# Altium integrated library TI Power Management Supervisor and Reset IC.IntLib: 819 symbols (part 16 of 30)
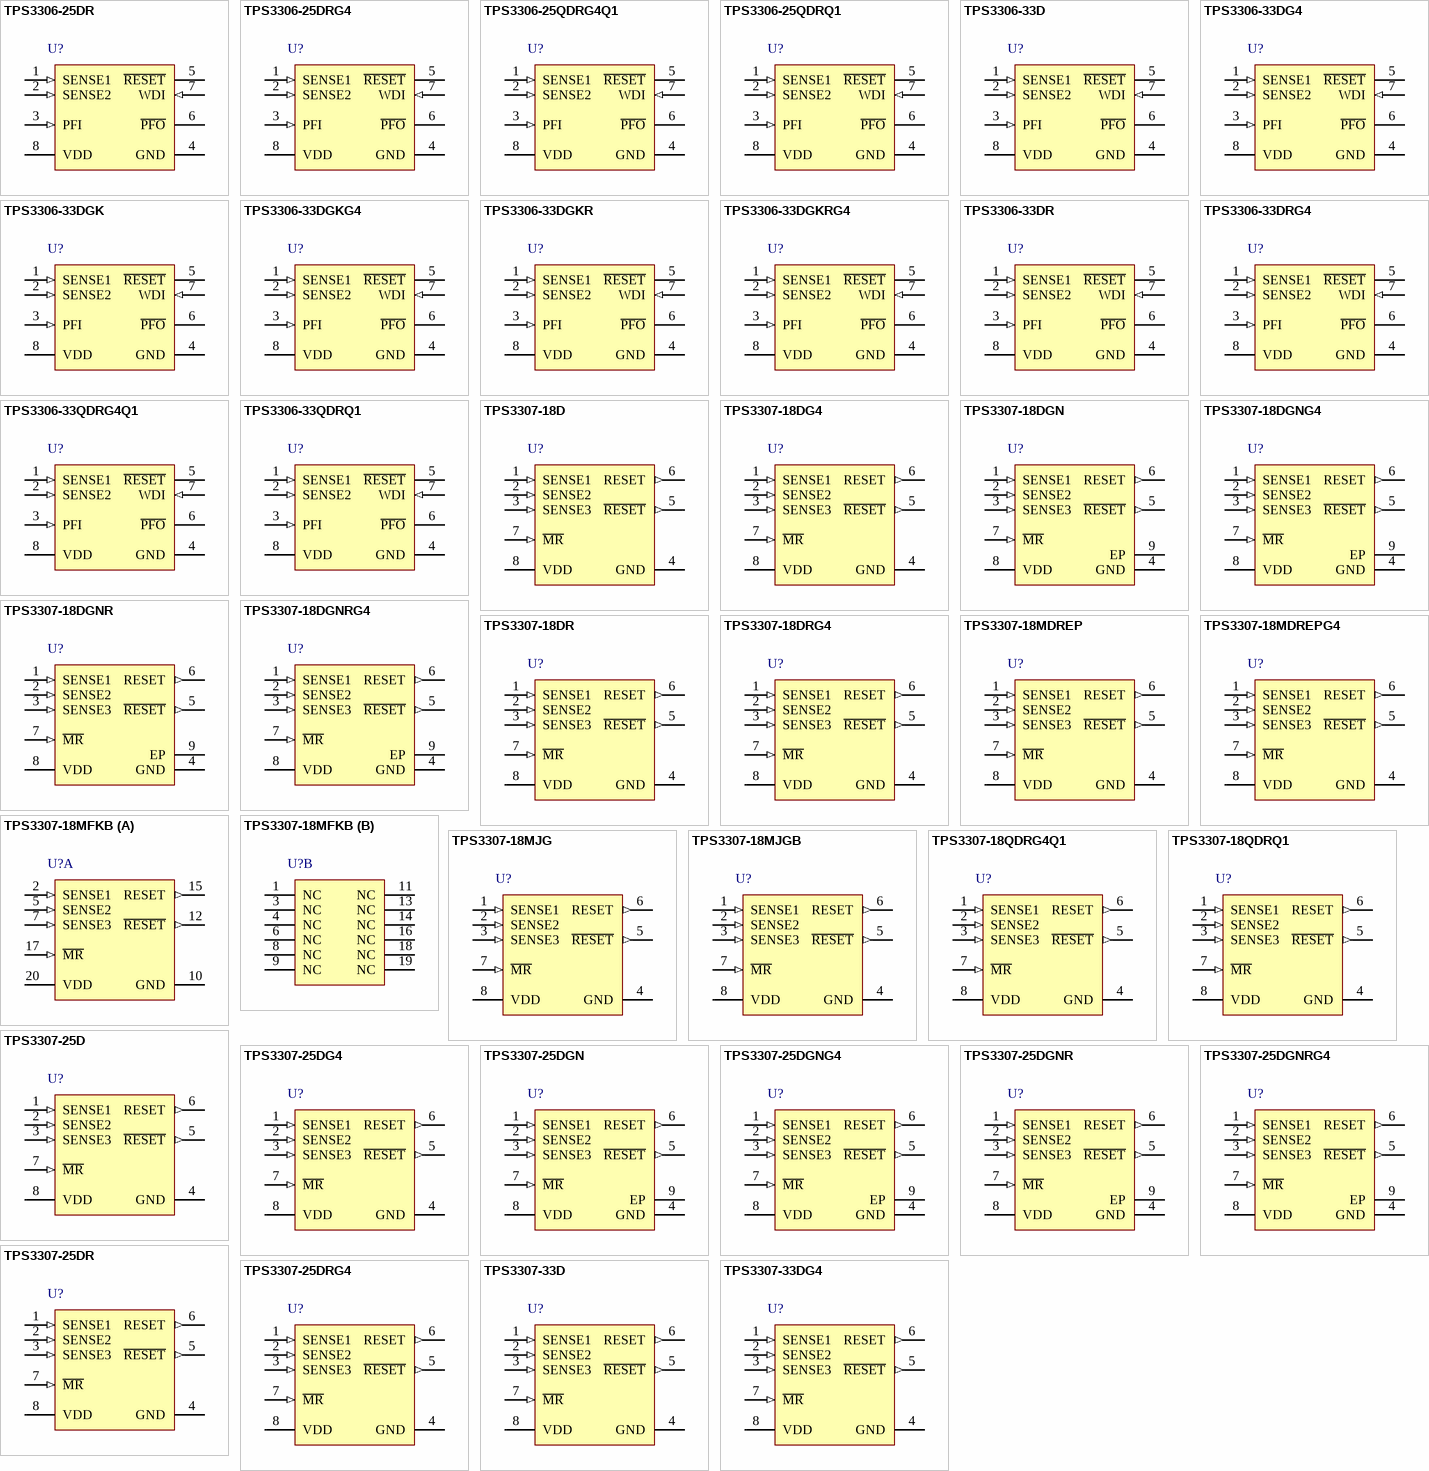
[diagram p36: symbols TPS3306-25DR to TPS3307-33DG4]

## TPS3307-33D
designator U?
Triple Processor Supervisory Circuit, 3 Supply Monitored, -40 to 85 degC, 8-pin SOIC (D), Green (RoHS & no Sb/Br); Manufacturer: Texas Instruments; PartNumber: TPS3307-33D; # of supplies monitored: 3; Iq(Typ)(uA): 15; Output Driver Type / Reset Output: Active-low, Push-pull; Rating: Military; Reset Threshold Accuracy(%): 2.7; SubFamily: Supervisor and Reset IC; Threshold Voltage 1 (typ)(Typ)(V): 4.55; Threshold Voltage 2 (typ)(Typ)(V): 2.93; Threshold Voltage 3 (typ)(Typ)(V): Adjustable; Time Delay(ms): 200; VCC(Max)(V): 6; VCC(Min)(V): 2; DatasheetVersion: SLVS199C; PackageVersion: revM, Jun-2011; PackageReference: D8; PackageDescription: 8-Pin Plastic Small Outline Integrated Circuit, 4.9 x 3.9 mm, Pitch 1.27 mm Pitch; Supplier 1: Digi-Key; Supplier Part Number 1: 296-3314-5-ND; Supplier 2: Farnell; Supplier Part Number 2: 1106064; Supplier 3: Newark; Supplier Part Number 3: 74K3976; Supplier 4: Mouser; Supplier Part Number 4: 595-TPS3307-33D; Mounting Technology: Surface Mount; Code_JEDEC: MS-012AA; ComponentLink1Description: Datasheet; ComponentLink1URL: http://www.ti.com/general/docs/lit/getliterature.tsp?genericPartNumber=TPS3307-33&fileType=pdf
footprint D8_N (SOIC, 8-Leads, Body 4.9x3.9mm, Pitch 1.27mm, IPC Medium Density)
footprint D8_L (SOIC, 8-Leads, Body 4.9x3.9mm, Pitch 1.27mm, IPC High Density)
footprint D8_M (SOIC, 8-Leads, Body 4.9x3.9mm, Pitch 1.27mm, IPC Low Density)
pins: 1 SENSE1 (in) "Sense voltage input 1", 2 SENSE2 (in) "Sense voltage input 2", 3 SENSE3 (in) "Sense voltage input 3", 4 GND (power) "Ground", 5 ~{RESET} (out) "Active-low reset output", 6 RESET (out) "Active-high reset output", 7 ~{MR} (in) "Manual reset", 8 VDD (power) "Supply voltage"

## TPS3307-33DG4
designator U?
Triple Processor Supervisory Circuit, 3 Supply Monitored, -40 to 85 degC, 8-pin SOIC (D), Green (RoHS & no Sb/Br); Manufacturer: Texas Instruments; PartNumber: TPS3307-33DG4; # of supplies monitored: 3; Iq(Typ)(uA): 15; Output Driver Type / Reset Output: Active-low, Push-pull; Rating: Military; Reset Threshold Accuracy(%): 2.7; SubFamily: Supervisor and Reset IC; Threshold Voltage 1 (typ)(Typ)(V): 4.55; Threshold Voltage 2 (typ)(Typ)(V): 2.93; Threshold Voltage 3 (typ)(Typ)(V): Adjustable; Time Delay(ms): 200; VCC(Max)(V): 6; VCC(Min)(V): 2; DatasheetVersion: SLVS199C; PackageVersion: revM, Jun-2011; PackageReference: D8; PackageDescription: 8-Pin Plastic Small Outline Integrated Circuit, 4.9 x 3.9 mm, Pitch 1.27 mm Pitch; Supplier 1: Digi-Key; Supplier Part Number 1: TPS3307-33DG4-ND; Supplier 2: Newark; Supplier Part Number 2: 43K4151; Supplier 3: Mouser; Supplier Part Number 3: 595-TPS3307-33DG4; Mounting Technology: Surface Mount; Code_JEDEC: MS-012AA; ComponentLink1Description: Datasheet; ComponentLink1URL: http://www.ti.com/general/docs/lit/getliterature.tsp?genericPartNumber=TPS3307-33&fileType=pdf
footprint D8_N (SOIC, 8-Leads, Body 4.9x3.9mm, Pitch 1.27mm, IPC Medium Density)
footprint D8_L (SOIC, 8-Leads, Body 4.9x3.9mm, Pitch 1.27mm, IPC High Density)
footprint D8_M (SOIC, 8-Leads, Body 4.9x3.9mm, Pitch 1.27mm, IPC Low Density)
pins: 1 SENSE1 (in) "Sense voltage input 1", 2 SENSE2 (in) "Sense voltage input 2", 3 SENSE3 (in) "Sense voltage input 3", 4 GND (power) "Ground", 5 ~{RESET} (out) "Active-low reset output", 6 RESET (out) "Active-high reset output", 7 ~{MR} (in) "Manual reset", 8 VDD (power) "Supply voltage"

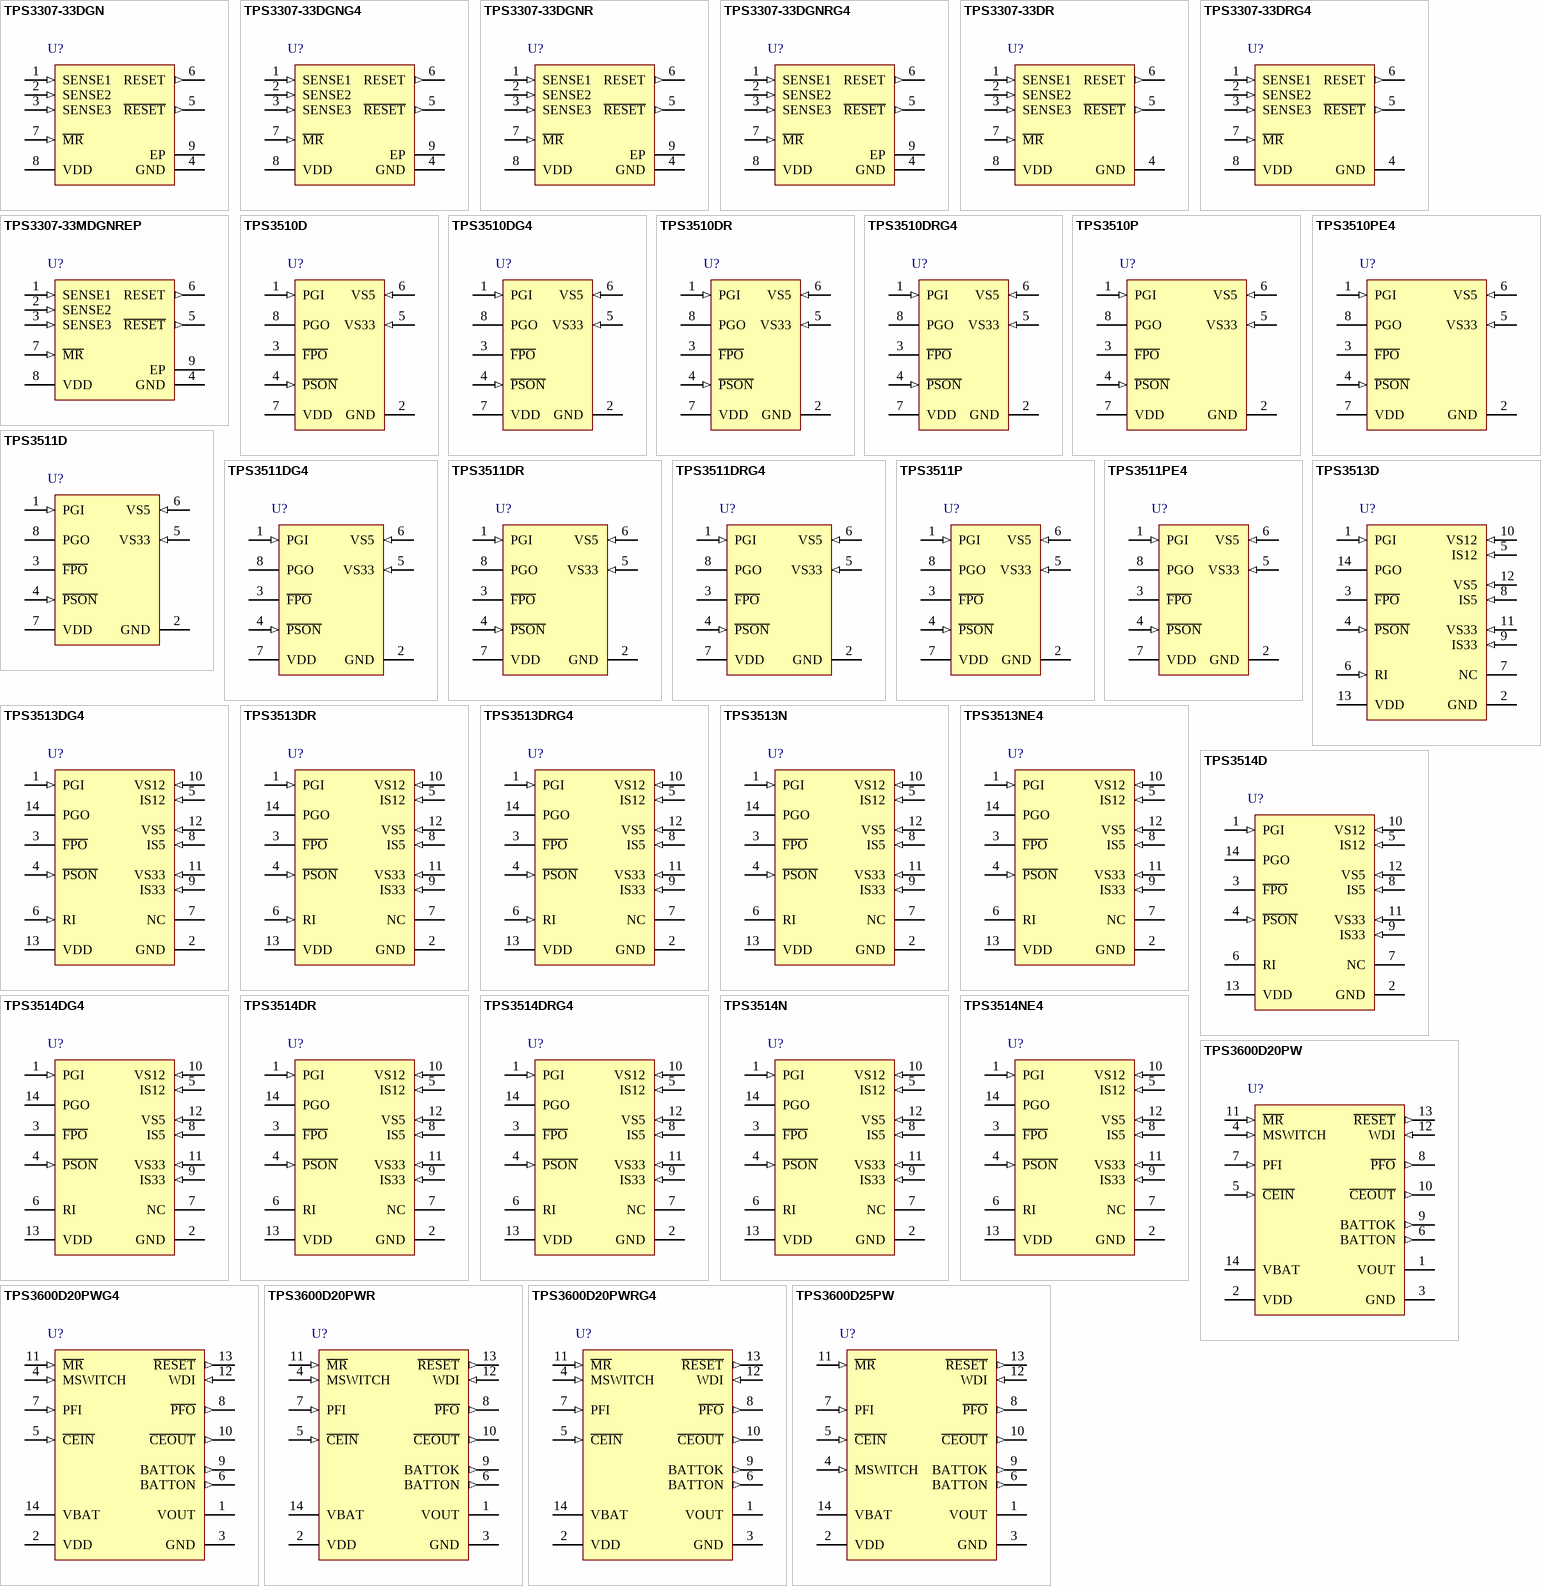
[diagram p12: symbols TPS3307-33DGN to TPS3600D25PW]

## TPS3307-33DGN
designator U?
Triple Processor Supervisory Circuit, 3 Supply Monitored, -40 to 85 degC, 8-pin MSOP-PowerPAD (DGN), Green (RoHS & no Sb/Br); Manufacturer: Texas Instruments; PartNumber: TPS3307-33DGN; # of supplies monitored: 3; Iq(Typ)(uA): 15; Output Driver Type / Reset Output: Active-low, Push-pull; Rating: Military; Reset Threshold Accuracy(%): 2.7; SubFamily: Supervisor and Reset IC; Threshold Voltage 1 (typ)(Typ)(V): 4.55; Threshold Voltage 2 (typ)(Typ)(V): 2.93; Threshold Voltage 3 (typ)(Typ)(V): Adjustable; Time Delay(ms): 200; VCC(Max)(V): 6; VCC(Min)(V): 2; DatasheetVersion: SLVS199C; PackageVersion: revF, May-2011; PackageReference: DGN8-1760X1425TP; PackageDescription: 8-Pin PowerPAD Plastic Small Outline Package 3 x 3 mm Body ,0.65 mm Pitch, Exposed Pad; Supplier 1: Digi-Key; Supplier Part Number 1: 296-3315-5-ND; Supplier 2: Farnell; Supplier Part Number 2: 1256031; Supplier 3: Newark; Supplier Part Number 3: 77C0331; Supplier 4: Mouser; Supplier Part Number 4: 595-TPS3307-33DGN; Mounting Technology: Surface Mount; Code_JEDEC: MO-187-AA-T; ComponentLink1Description: Datasheet; ComponentLink1URL: http://www.ti.com/general/docs/lit/getliterature.tsp?genericPartNumber=TPS3307-33&fileType=pdf
footprint DGN8-1760X1425TP_N (TSOP, 8-Leads, Body 3x3mm, Pitch 0.65mm, Thermal Pad 1.89x1.57mm, IPC Medium Density)
footprint DGN8-1760X1425TP_L (TSOP, 8-Leads, Body 3x3mm, Pitch 0.65mm, Thermal Pad 1.89x1.57mm, IPC High Density)
footprint DGN8-1760X1425TP_M (TSOP, 8-Leads, Body 3x3mm, Pitch 0.65mm, Thermal Pad 1.89x1.57mm, IPC Low Density)
pins: 1 SENSE1 (in) "Sense voltage input 1", 2 SENSE2 (in) "Sense voltage input 2", 3 SENSE3 (in) "Sense voltage input 3", 4 GND (power) "Ground", 5 ~{RESET} (out) "Active-low reset output", 6 RESET (out) "Active-high reset output", 7 ~{MR} (in) "Manual reset", 8 VDD (power) "Supply voltage", 9 EP (power) "Exposed Thermal Pad"

## TPS3307-33DGNG4
designator U?
Triple Processor Supervisory Circuit, 3 Supply Monitored, -40 to 85 degC, 8-pin MSOP-PowerPAD (DGN), Green (RoHS & no Sb/Br); Manufacturer: Texas Instruments; PartNumber: TPS3307-33DGNG4; # of supplies monitored: 3; Iq(Typ)(uA): 15; Output Driver Type / Reset Output: Active-low, Push-pull; Rating: Military; Reset Threshold Accuracy(%): 2.7; SubFamily: Supervisor and Reset IC; Threshold Voltage 1 (typ)(Typ)(V): 4.55; Threshold Voltage 2 (typ)(Typ)(V): 2.93; Threshold Voltage 3 (typ)(Typ)(V): Adjustable; Time Delay(ms): 200; VCC(Max)(V): 6; VCC(Min)(V): 2; DatasheetVersion: SLVS199C; PackageVersion: revF, May-2011; PackageReference: DGN8-1760X1425TP; PackageDescription: 8-Pin PowerPAD Plastic Small Outline Package 3 x 3 mm Body ,0.65 mm Pitch, Exposed Pad; Supplier 1: Digi-Key; Supplier Part Number 1: TPS3307-33DGNG4-ND; Supplier 2: Farnell; Supplier Part Number 2: 1214435; Supplier 3: Newark; Supplier Part Number 3: 98K1812; Supplier 4: Newark; Supplier Part Number 4: 70K5724; Supplier 5: Mouser; Supplier Part Number 5: 595-TPS3307-33DGNG4; Mounting Technology: Surface Mount; Code_JEDEC: MO-187-AA-T; ComponentLink1Description: Datasheet; ComponentLink1URL: http://www.ti.com/general/docs/lit/getliterature.tsp?genericPartNumber=TPS3307-33&fileType=pdf
footprint DGN8-1760X1425TP_N (TSOP, 8-Leads, Body 3x3mm, Pitch 0.65mm, Thermal Pad 1.89x1.57mm, IPC Medium Density)
footprint DGN8-1760X1425TP_L (TSOP, 8-Leads, Body 3x3mm, Pitch 0.65mm, Thermal Pad 1.89x1.57mm, IPC High Density)
footprint DGN8-1760X1425TP_M (TSOP, 8-Leads, Body 3x3mm, Pitch 0.65mm, Thermal Pad 1.89x1.57mm, IPC Low Density)
pins: 1 SENSE1 (in) "Sense voltage input 1", 2 SENSE2 (in) "Sense voltage input 2", 3 SENSE3 (in) "Sense voltage input 3", 4 GND (power) "Ground", 5 ~{RESET} (out) "Active-low reset output", 6 RESET (out) "Active-high reset output", 7 ~{MR} (in) "Manual reset", 8 VDD (power) "Supply voltage", 9 EP (power) "Exposed Thermal Pad"

## TPS3307-33DGNR
designator U?
Triple Processor Supervisory Circuit, 3 Supply Monitored, -40 to 85 degC, 8-pin MSOP-PowerPAD (DGN), Green (RoHS & no Sb/Br); Manufacturer: Texas Instruments; PartNumber: TPS3307-33DGNR; # of supplies monitored: 3; Iq(Typ)(uA): 15; Output Driver Type / Reset Output: Active-low, Push-pull; Rating: Military; Reset Threshold Accuracy(%): 2.7; SubFamily: Supervisor and Reset IC; Threshold Voltage 1 (typ)(Typ)(V): 4.55; Threshold Voltage 2 (typ)(Typ)(V): 2.93; Threshold Voltage 3 (typ)(Typ)(V): Adjustable; Time Delay(ms): 200; VCC(Max)(V): 6; VCC(Min)(V): 2; DatasheetVersion: SLVS199C; PackageVersion: revF, May-2011; PackageReference: DGN8-1760X1425TP; PackageDescription: 8-Pin PowerPAD Plastic Small Outline Package 3 x 3 mm Body ,0.65 mm Pitch, Exposed Pad; Supplier 1: Digi-Key; Supplier Part Number 1: 296-3315-2-ND; Supplier 2: Digi-Key; Supplier Part Number 2: 296-3315-1-ND; Supplier 3: Digi-Key; Supplier Part Number 3: 296-3315-6-ND; Supplier 4: Newark; Supplier Part Number 4: 77C0332; Supplier 5: Mouser; Supplier Part Number 5: 595-TPS3307-33DGNR; Mounting Technology: Surface Mount; Code_JEDEC: MO-187-AA-T; ComponentLink1Description: Datasheet; ComponentLink1URL: http://www.ti.com/general/docs/lit/getliterature.tsp?genericPartNumber=TPS3307-33&fileType=pdf
footprint DGN8-1760X1425TP_N (TSOP, 8-Leads, Body 3x3mm, Pitch 0.65mm, Thermal Pad 1.89x1.57mm, IPC Medium Density)
footprint DGN8-1760X1425TP_L (TSOP, 8-Leads, Body 3x3mm, Pitch 0.65mm, Thermal Pad 1.89x1.57mm, IPC High Density)
footprint DGN8-1760X1425TP_M (TSOP, 8-Leads, Body 3x3mm, Pitch 0.65mm, Thermal Pad 1.89x1.57mm, IPC Low Density)
pins: 1 SENSE1 (in) "Sense voltage input 1", 2 SENSE2 (in) "Sense voltage input 2", 3 SENSE3 (in) "Sense voltage input 3", 4 GND (power) "Ground", 5 ~{RESET} (out) "Active-low reset output", 6 RESET (out) "Active-high reset output", 7 ~{MR} (in) "Manual reset", 8 VDD (power) "Supply voltage", 9 EP (power) "Exposed Thermal Pad"

## TPS3307-33DGNRG4
designator U?
Triple Processor Supervisory Circuit, 3 Supply Monitored, -40 to 85 degC, 8-pin MSOP-PowerPAD (DGN), Green (RoHS & no Sb/Br); Manufacturer: Texas Instruments; PartNumber: TPS3307-33DGNRG4; # of supplies monitored: 3; Iq(Typ)(uA): 15; Output Driver Type / Reset Output: Active-low, Push-pull; Rating: Military; Reset Threshold Accuracy(%): 2.7; SubFamily: Supervisor and Reset IC; Threshold Voltage 1 (typ)(Typ)(V): 4.55; Threshold Voltage 2 (typ)(Typ)(V): 2.93; Threshold Voltage 3 (typ)(Typ)(V): Adjustable; Time Delay(ms): 200; VCC(Max)(V): 6; VCC(Min)(V): 2; DatasheetVersion: SLVS199C; PackageVersion: revF, May-2011; PackageReference: DGN8-1760X1425TP; PackageDescription: 8-Pin PowerPAD Plastic Small Outline Package 3 x 3 mm Body ,0.65 mm Pitch, Exposed Pad; Supplier 1: Digi-Key; Supplier Part Number 1: TPS3307-33DGNRG4-ND; Supplier 2: Newark; Supplier Part Number 2: 58K6918; Supplier 3: Mouser; Supplier Part Number 3: 595-TPS3307-33DGNRG4; Mounting Technology: Surface Mount; Code_JEDEC: MO-187-AA-T; ComponentLink1Description: Datasheet; ComponentLink1URL: http://www.ti.com/general/docs/lit/getliterature.tsp?genericPartNumber=TPS3307-33&fileType=pdf
footprint DGN8-1760X1425TP_N (TSOP, 8-Leads, Body 3x3mm, Pitch 0.65mm, Thermal Pad 1.89x1.57mm, IPC Medium Density)
footprint DGN8-1760X1425TP_L (TSOP, 8-Leads, Body 3x3mm, Pitch 0.65mm, Thermal Pad 1.89x1.57mm, IPC High Density)
footprint DGN8-1760X1425TP_M (TSOP, 8-Leads, Body 3x3mm, Pitch 0.65mm, Thermal Pad 1.89x1.57mm, IPC Low Density)
pins: 1 SENSE1 (in) "Sense voltage input 1", 2 SENSE2 (in) "Sense voltage input 2", 3 SENSE3 (in) "Sense voltage input 3", 4 GND (power) "Ground", 5 ~{RESET} (out) "Active-low reset output", 6 RESET (out) "Active-high reset output", 7 ~{MR} (in) "Manual reset", 8 VDD (power) "Supply voltage", 9 EP (power) "Exposed Thermal Pad"

## TPS3307-33DR
designator U?
Triple Processor Supervisory Circuit, 3 Supply Monitored, -40 to 85 degC, 8-pin SOIC (D), Green (RoHS & no Sb/Br); Manufacturer: Texas Instruments; PartNumber: TPS3307-33DR; # of supplies monitored: 3; Iq(Typ)(uA): 15; Output Driver Type / Reset Output: Active-low, Push-pull; Rating: Military; Reset Threshold Accuracy(%): 2.7; SubFamily: Supervisor and Reset IC; Threshold Voltage 1 (typ)(Typ)(V): 4.55; Threshold Voltage 2 (typ)(Typ)(V): 2.93; Threshold Voltage 3 (typ)(Typ)(V): Adjustable; Time Delay(ms): 200; VCC(Max)(V): 6; VCC(Min)(V): 2; DatasheetVersion: SLVS199C; PackageVersion: revM, Jun-2011; PackageReference: D8; PackageDescription: 8-Pin Plastic Small Outline Integrated Circuit, 4.9 x 3.9 mm, Pitch 1.27 mm Pitch; Supplier 1: Digi-Key; Supplier Part Number 1: 296-3314-2-ND; Supplier 2: Digi-Key; Supplier Part Number 2: 296-3314-1-ND; Supplier 3: Digi-Key; Supplier Part Number 3: 296-3314-6-ND; Supplier 4: Newark; Supplier Part Number 4: 77C0333; Supplier 5: Mouser; Supplier Part Number 5: 595-TPS3307-33DR; Mounting Technology: Surface Mount; Code_JEDEC: MS-012AA; ComponentLink1Description: Datasheet; ComponentLink1URL: http://www.ti.com/general/docs/lit/getliterature.tsp?genericPartNumber=TPS3307-33&fileType=pdf
footprint D8_N (SOIC, 8-Leads, Body 4.9x3.9mm, Pitch 1.27mm, IPC Medium Density)
footprint D8_L (SOIC, 8-Leads, Body 4.9x3.9mm, Pitch 1.27mm, IPC High Density)
footprint D8_M (SOIC, 8-Leads, Body 4.9x3.9mm, Pitch 1.27mm, IPC Low Density)
pins: 1 SENSE1 (in) "Sense voltage input 1", 2 SENSE2 (in) "Sense voltage input 2", 3 SENSE3 (in) "Sense voltage input 3", 4 GND (power) "Ground", 5 ~{RESET} (out) "Active-low reset output", 6 RESET (out) "Active-high reset output", 7 ~{MR} (in) "Manual reset", 8 VDD (power) "Supply voltage"

## TPS3307-33DRG4
designator U?
Triple Processor Supervisory Circuit, 3 Supply Monitored, -40 to 85 degC, 8-pin SOIC (D), Green (RoHS & no Sb/Br); Manufacturer: Texas Instruments; PartNumber: TPS3307-33DRG4; # of supplies monitored: 3; Iq(Typ)(uA): 15; Output Driver Type / Reset Output: Active-low, Push-pull; Rating: Military; Reset Threshold Accuracy(%): 2.7; SubFamily: Supervisor and Reset IC; Threshold Voltage 1 (typ)(Typ)(V): 4.55; Threshold Voltage 2 (typ)(Typ)(V): 2.93; Threshold Voltage 3 (typ)(Typ)(V): Adjustable; Time Delay(ms): 200; VCC(Max)(V): 6; VCC(Min)(V): 2; DatasheetVersion: SLVS199C; PackageVersion: revM, Jun-2011; PackageReference: D8; PackageDescription: 8-Pin Plastic Small Outline Integrated Circuit, 4.9 x 3.9 mm, Pitch 1.27 mm Pitch; Supplier 1: Digi-Key; Supplier Part Number 1: TPS3307-33DRG4-ND; Supplier 2: Newark; Supplier Part Number 2: 71J8100; Supplier 3: Mouser; Supplier Part Number 3: 595-TPS3307-33DRG4; Mounting Technology: Surface Mount; Code_JEDEC: MS-012AA; ComponentLink1Description: Datasheet; ComponentLink1URL: http://www.ti.com/general/docs/lit/getliterature.tsp?genericPartNumber=TPS3307-33&fileType=pdf
footprint D8_N (SOIC, 8-Leads, Body 4.9x3.9mm, Pitch 1.27mm, IPC Medium Density)
footprint D8_L (SOIC, 8-Leads, Body 4.9x3.9mm, Pitch 1.27mm, IPC High Density)
footprint D8_M (SOIC, 8-Leads, Body 4.9x3.9mm, Pitch 1.27mm, IPC Low Density)
pins: 1 SENSE1 (in) "Sense voltage input 1", 2 SENSE2 (in) "Sense voltage input 2", 3 SENSE3 (in) "Sense voltage input 3", 4 GND (power) "Ground", 5 ~{RESET} (out) "Active-low reset output", 6 RESET (out) "Active-high reset output", 7 ~{MR} (in) "Manual reset", 8 VDD (power) "Supply voltage"

## TPS3307-33MDGNREP
designator U?
Enhanced Product Triple Processor Supervisor, 3 Supply Monitored, -55 to 125 degC, 8-pin MSOP-PowerPAD (DGN), Green (RoHS & no Sb/Br); Manufacturer: Texas Instruments; PartNumber: TPS3307-33MDGNREP; # of supplies monitored: 3; Iq(Typ)(uA): 15; Output Driver Type / Reset Output: Active-low, Push-pull; Rating: HiRel Enhanced Product; Reset Threshold Accuracy(%): 2.7; SubFamily: Supervisor and Reset IC; Threshold Voltage 1 (typ)(Typ)(V): 4.55; Threshold Voltage 2 (typ)(Typ)(V): 2.93; Threshold Voltage 3 (typ)(Typ)(V): Adjustable; Time Delay(ms): 200; VCC(Max)(V): 6; VCC(Min)(V): 2; DatasheetVersion: SGLS140A; PackageVersion: revF, May-2011; PackageReference: DGN8-1760X1425TP; PackageDescription: 8-Pin PowerPAD Plastic Small Outline Package 3 x 3 mm Body ,0.65 mm Pitch, Exposed Pad; Supplier 1: Digi-Key; Supplier Part Number 1: 296-21267-2-ND; Supplier 2: Digi-Key; Supplier Part Number 2: 296-21267-1-ND; Supplier 3: Digi-Key; Supplier Part Number 3: 296-21267-6-ND; Supplier 4: Newark; Supplier Part Number 4: 46M1094; Supplier 5: Mouser; Supplier Part Number 5: 595-PS3307-33MDGNREP; Mounting Technology: Surface Mount; Code_JEDEC: MO-187-AA-T; ComponentLink1Description: Datasheet; ComponentLink1URL: http://www.ti.com/general/docs/lit/getliterature.tsp?genericPartNumber=TPS3307-33-EP&fileType=pdf
footprint DGN8-1760X1425TP_N (TSOP, 8-Leads, Body 3x3mm, Pitch 0.65mm, Thermal Pad 1.89x1.57mm, IPC Medium Density)
footprint DGN8-1760X1425TP_L (TSOP, 8-Leads, Body 3x3mm, Pitch 0.65mm, Thermal Pad 1.89x1.57mm, IPC High Density)
footprint DGN8-1760X1425TP_M (TSOP, 8-Leads, Body 3x3mm, Pitch 0.65mm, Thermal Pad 1.89x1.57mm, IPC Low Density)
pins: 1 SENSE1 (in), 2 SENSE2 (in), 3 SENSE3 (in), 4 GND (power), 5 ~{RESET} (out), 6 RESET (out), 7 ~{MR} (in), 8 VDD (power), 9 EP

## TPS3510D
designator U?
3-Channel Supervisor for Switch-Mode Power Supplies, 3 Supply Monitored, -40 to 85 degC, 8-pin SOIC (D), Green (RoHS & no Sb/Br); Manufacturer: Texas Instruments; PartNumber: TPS3510D; # of supplies monitored: 3; Iq(Typ)(uA): 1000; Output Driver Type / Reset Output: Active-low, Open-drain; Rating: Catalog; Reset Threshold Accuracy(%): 9.1; SubFamily: Supervisor and Reset IC; Threshold Voltage 1 (typ)(Typ)(V): 2.2; Threshold Voltage 2 (typ)(Typ)(V): 3.5; Threshold Voltage 3 (typ)(Typ)(V): 13.8; Time Delay(ms): 300; VCC(Max)(V): 15; VCC(Min)(V): 4; DatasheetVersion: SLVS312A; PackageVersion: revM, Jun-2011; PackageReference: D8; PackageDescription: 8-Pin Plastic Small Outline Integrated Circuit, 4.9 x 3.9 mm, Pitch 1.27 mm Pitch; Supplier 1: Digi-Key; Supplier Part Number 1: 296-26938-5-ND; Supplier 2: Newark; Supplier Part Number 2: 77C0334; Supplier 3: Mouser; Supplier Part Number 3: 595-TPS3510D; Mounting Technology: Surface Mount; Code_JEDEC: MS-012AA; ComponentLink1Description: Datasheet; ComponentLink1URL: http://www.ti.com/general/docs/lit/getliterature.tsp?genericPartNumber=TPS3510&fileType=pdf
footprint D8_N (SOIC, 8-Leads, Body 4.9x3.9mm, Pitch 1.27mm, IPC Medium Density)
footprint D8_L (SOIC, 8-Leads, Body 4.9x3.9mm, Pitch 1.27mm, IPC High Density)
footprint D8_M (SOIC, 8-Leads, Body 4.9x3.9mm, Pitch 1.27mm, IPC Low Density)
pins: 1 PGI (in) "Power good input", 2 GND (power) "Ground", 3 ~{FPO} (oc) "Inverted fault protection output, open drain output stage", 4 ~{PSON} (in) "ON/OFF control", 5 VS33 (in) "3.3 V over/undervoltage protection", 6 VS5 (in) "5 V over/undervoltage protection", 7 VDD (power) "Supply voltage/12 V overvoltage protection input pin", 8 PGO (oc) "Power good output, open drain output stage"

## TPS3510DG4
designator U?
3-Channel Supervisor for Switch-Mode Power Supplies, 3 Supply Monitored, -40 to 85 degC, 8-pin SOIC (D), Green (RoHS & no Sb/Br); Manufacturer: Texas Instruments; PartNumber: TPS3510DG4; # of supplies monitored: 3; Iq(Typ)(uA): 1000; Output Driver Type / Reset Output: Active-low, Open-drain; Rating: Catalog; Reset Threshold Accuracy(%): 9.1; SubFamily: Supervisor and Reset IC; Threshold Voltage 1 (typ)(Typ)(V): 2.2; Threshold Voltage 2 (typ)(Typ)(V): 3.5; Threshold Voltage 3 (typ)(Typ)(V): 13.8; Time Delay(ms): 300; VCC(Max)(V): 15; VCC(Min)(V): 4; DatasheetVersion: SLVS312A; PackageVersion: revM, Jun-2011; PackageReference: D8; PackageDescription: 8-Pin Plastic Small Outline Integrated Circuit, 4.9 x 3.9 mm, Pitch 1.27 mm Pitch; Supplier 1: Digi-Key; Supplier Part Number 1: TPS3510DG4-ND; Supplier 2: Newark; Supplier Part Number 2: 58K6919; Supplier 3: Mouser; Supplier Part Number 3: 595-TPS3510DG4; Mounting Technology: Surface Mount; Code_JEDEC: MS-012AA; ComponentLink1Description: Datasheet; ComponentLink1URL: http://www.ti.com/general/docs/lit/getliterature.tsp?genericPartNumber=TPS3510&fileType=pdf
footprint D8_N (SOIC, 8-Leads, Body 4.9x3.9mm, Pitch 1.27mm, IPC Medium Density)
footprint D8_L (SOIC, 8-Leads, Body 4.9x3.9mm, Pitch 1.27mm, IPC High Density)
footprint D8_M (SOIC, 8-Leads, Body 4.9x3.9mm, Pitch 1.27mm, IPC Low Density)
pins: 1 PGI (in) "Power good input", 2 GND (power) "Ground", 3 ~{FPO} (oc) "Inverted fault protection output, open drain output stage", 4 ~{PSON} (in) "ON/OFF control", 5 VS33 (in) "3.3 V over/undervoltage protection", 6 VS5 (in) "5 V over/undervoltage protection", 7 VDD (power) "Supply voltage/12 V overvoltage protection input pin", 8 PGO (oc) "Power good output, open drain output stage"

## TPS3510DR
designator U?
3-Channel Supervisor for Switch-Mode Power Supplies, 3 Supply Monitored, -40 to 85 degC, 8-pin SOIC (D), Green (RoHS & no Sb/Br); Manufacturer: Texas Instruments; PartNumber: TPS3510DR; # of supplies monitored: 3; Iq(Typ)(uA): 1000; Output Driver Type / Reset Output: Active-low, Open-drain; Rating: Catalog; Reset Threshold Accuracy(%): 9.1; SubFamily: Supervisor and Reset IC; Threshold Voltage 1 (typ)(Typ)(V): 2.2; Threshold Voltage 2 (typ)(Typ)(V): 3.5; Threshold Voltage 3 (typ)(Typ)(V): 13.8; Time Delay(ms): 300; VCC(Max)(V): 15; VCC(Min)(V): 4; DatasheetVersion: SLVS312A; PackageVersion: revM, Jun-2011; PackageReference: D8; PackageDescription: 8-Pin Plastic Small Outline Integrated Circuit, 4.9 x 3.9 mm, Pitch 1.27 mm Pitch; Supplier 1: Digi-Key; Supplier Part Number 1: 296-3317-2-ND; Supplier 2: Digi-Key; Supplier Part Number 2: 296-3317-1-ND; Supplier 3: Digi-Key; Supplier Part Number 3: 296-3317-6-ND; Supplier 4: Newark; Supplier Part Number 4: 77C0335; Supplier 5: Mouser; Supplier Part Number 5: 595-TPS3510DR; Mounting Technology: Surface Mount; Code_JEDEC: MS-012AA; ComponentLink1Description: Datasheet; ComponentLink1URL: http://www.ti.com/general/docs/lit/getliterature.tsp?genericPartNumber=TPS3510&fileType=pdf
footprint D8_N (SOIC, 8-Leads, Body 4.9x3.9mm, Pitch 1.27mm, IPC Medium Density)
footprint D8_L (SOIC, 8-Leads, Body 4.9x3.9mm, Pitch 1.27mm, IPC High Density)
footprint D8_M (SOIC, 8-Leads, Body 4.9x3.9mm, Pitch 1.27mm, IPC Low Density)
pins: 1 PGI (in) "Power good input", 2 GND (power) "Ground", 3 ~{FPO} (oc) "Inverted fault protection output, open drain output stage", 4 ~{PSON} (in) "ON/OFF control", 5 VS33 (in) "3.3 V over/undervoltage protection", 6 VS5 (in) "5 V over/undervoltage protection", 7 VDD (power) "Supply voltage/12 V overvoltage protection input pin", 8 PGO (oc) "Power good output, open drain output stage"

## TPS3510DRG4
designator U?
3-Channel Supervisor for Switch-Mode Power Supplies, 3 Supply Monitored, -40 to 85 degC, 8-pin SOIC (D), Green (RoHS & no Sb/Br); Manufacturer: Texas Instruments; PartNumber: TPS3510DRG4; # of supplies monitored: 3; Iq(Typ)(uA): 1000; Output Driver Type / Reset Output: Active-low, Open-drain; Rating: Catalog; Reset Threshold Accuracy(%): 9.1; SubFamily: Supervisor and Reset IC; Threshold Voltage 1 (typ)(Typ)(V): 2.2; Threshold Voltage 2 (typ)(Typ)(V): 3.5; Threshold Voltage 3 (typ)(Typ)(V): 13.8; Time Delay(ms): 300; VCC(Max)(V): 15; VCC(Min)(V): 4; DatasheetVersion: SLVS312A; PackageVersion: revM, Jun-2011; PackageReference: D8; PackageDescription: 8-Pin Plastic Small Outline Integrated Circuit, 4.9 x 3.9 mm, Pitch 1.27 mm Pitch; Supplier 1: Digi-Key; Supplier Part Number 1: TPS3510DRG4-ND; Supplier 2: Newark; Supplier Part Number 2: 54K1629; Supplier 3: Mouser; Supplier Part Number 3: 595-TPS3510DRG4; Mounting Technology: Surface Mount; Code_JEDEC: MS-012AA; ComponentLink1Description: Datasheet; ComponentLink1URL: http://www.ti.com/general/docs/lit/getliterature.tsp?genericPartNumber=TPS3510&fileType=pdf
footprint D8_N (SOIC, 8-Leads, Body 4.9x3.9mm, Pitch 1.27mm, IPC Medium Density)
footprint D8_L (SOIC, 8-Leads, Body 4.9x3.9mm, Pitch 1.27mm, IPC High Density)
footprint D8_M (SOIC, 8-Leads, Body 4.9x3.9mm, Pitch 1.27mm, IPC Low Density)
pins: 1 PGI (in) "Power good input", 2 GND (power) "Ground", 3 ~{FPO} (oc) "Inverted fault protection output, open drain output stage", 4 ~{PSON} (in) "ON/OFF control", 5 VS33 (in) "3.3 V over/undervoltage protection", 6 VS5 (in) "5 V over/undervoltage protection", 7 VDD (power) "Supply voltage/12 V overvoltage protection input pin", 8 PGO (oc) "Power good output, open drain output stage"

## TPS3510P
designator U?
3-Channel Supervisor for Switch-Mode Power Supplies, 3 Supply Monitored, -40 to 85 degC, 8-pin PDIP (P), Pb-Free (RoHS); Manufacturer: Texas Instruments; PartNumber: TPS3510P; # of supplies monitored: 3; Iq(Typ)(uA): 1000; Output Driver Type / Reset Output: Active-low, Open-drain; Rating: Catalog; Reset Threshold Accuracy(%): 9.1; SubFamily: Supervisor and Reset IC; Threshold Voltage 1 (typ)(Typ)(V): 2.2; Threshold Voltage 2 (typ)(Typ)(V): 3.5; Threshold Voltage 3 (typ)(Typ)(V): 13.8; Time Delay(ms): 300; VCC(Max)(V): 15; VCC(Min)(V): 4; DatasheetVersion: SLVS312A; PackageVersion: revE, Apr-2010; PackageReference: P8; PackageDescription: 8-Pin Plastic Dual-In-Line Package, Row Spacing 7.62 mm, Pitch 2.54 mm; Supplier 1: Digi-Key; Supplier Part Number 1: 296-3318-5-ND; Supplier 2: Newark; Supplier Part Number 2: 77C0336; Supplier 3: Mouser; Supplier Part Number 3: 595-TPS3510P; Mounting Technology: Through Hole; Code_JEDEC: MS-001-BA; ComponentLink1Description: Datasheet; ComponentLink1URL: http://www.ti.com/general/docs/lit/getliterature.tsp?genericPartNumber=TPS3510&fileType=pdf
footprint P8 (DIP, 8-Leads, Row Spacing 7.62mm, Pitch 2.54mm, Body 9.6x6.4mm)
pins: 1 PGI (in) "Power good input", 2 GND (power) "Ground", 3 ~{FPO} (oc) "Inverted fault protection output, open drain output stage", 4 ~{PSON} (in) "ON/OFF control", 5 VS33 (in) "3.3 V over/undervoltage protection", 6 VS5 (in) "5 V over/undervoltage protection", 7 VDD (power) "Supply voltage/12 V overvoltage protection input pin", 8 PGO (oc) "Power good output, open drain output stage"

## TPS3510PE4
designator U?
3-Channel Supervisor for Switch-Mode Power Supplies, 3 Supply Monitored, -40 to 85 degC, 8-pin PDIP (P), Pb-Free (RoHS); Manufacturer: Texas Instruments; PartNumber: TPS3510PE4; # of supplies monitored: 3; Iq(Typ)(uA): 1000; Output Driver Type / Reset Output: Active-low, Open-drain; Rating: Catalog; Reset Threshold Accuracy(%): 9.1; SubFamily: Supervisor and Reset IC; Threshold Voltage 1 (typ)(Typ)(V): 2.2; Threshold Voltage 2 (typ)(Typ)(V): 3.5; Threshold Voltage 3 (typ)(Typ)(V): 13.8; Time Delay(ms): 300; VCC(Max)(V): 15; VCC(Min)(V): 4; DatasheetVersion: SLVS312A; PackageVersion: revE, Apr-2010; PackageReference: P8; PackageDescription: 8-Pin Plastic Dual-In-Line Package, Row Spacing 7.62 mm, Pitch 2.54 mm; Supplier 1: Digi-Key; Supplier Part Number 1: TPS3510PE4-ND; Supplier 2: Farnell; Supplier Part Number 2: 1287684; Supplier 3: Newark; Supplier Part Number 3: 24K5918; Supplier 4: Mouser; Supplier Part Number 4: 595-TPS3510PE4; Mounting Technology: Through Hole; Code_JEDEC: MS-001-BA; ComponentLink1Description: Datasheet; ComponentLink1URL: http://www.ti.com/general/docs/lit/getliterature.tsp?genericPartNumber=TPS3510&fileType=pdf
footprint P8 (DIP, 8-Leads, Row Spacing 7.62mm, Pitch 2.54mm, Body 9.6x6.4mm)
pins: 1 PGI (in) "Power good input", 2 GND (power) "Ground", 3 ~{FPO} (oc) "Inverted fault protection output, open drain output stage", 4 ~{PSON} (in) "ON/OFF control", 5 VS33 (in) "3.3 V over/undervoltage protection", 6 VS5 (in) "5 V over/undervoltage protection", 7 VDD (power) "Supply voltage/12 V overvoltage protection input pin", 8 PGO (oc) "Power good output, open drain output stage"

## TPS3511D
designator U?
PC Power Supply Supervisor, 3 Supply Monitored, -40 to 125 degC, 8-pin SOIC (D), Green (RoHS & no Sb/Br); Manufacturer: Texas Instruments; PartNumber: TPS3511D; # of supplies monitored: 3; Iq(Typ)(uA): 1000; Output Driver Type / Reset Output: Active-low, Open-drain; Rating: Catalog; Reset Threshold Accuracy(%): 5.7; SubFamily: Supervisor and Reset IC; Threshold Voltage 1 (typ)(Typ)(V): 2.2; Threshold Voltage 2 (typ)(Typ)(V): 3.5; Threshold Voltage 3 (typ)(Typ)(V): 13.8; Time Delay(ms): 150; VCC(Max)(V): 15; VCC(Min)(V): 4; DatasheetVersion: SLVS312A; PackageVersion: revM, Jun-2011; PackageReference: D8; PackageDescription: 8-Pin Plastic Small Outline Integrated Circuit, 4.9 x 3.9 mm, Pitch 1.27 mm Pitch; Supplier 1: Digi-Key; Supplier Part Number 1: 296-15041-5-ND; Supplier 2: Newark; Supplier Part Number 2: 61H5558; Supplier 3: Mouser; Supplier Part Number 3: 595-TPS3511D; Mounting Technology: Surface Mount; Code_JEDEC: MS-012AA; ComponentLink1Description: Datasheet; ComponentLink1URL: http://www.ti.com/general/docs/lit/getliterature.tsp?genericPartNumber=TPS3511&fileType=pdf
footprint D8_N (SOIC, 8-Leads, Body 4.9x3.9mm, Pitch 1.27mm, IPC Medium Density)
footprint D8_L (SOIC, 8-Leads, Body 4.9x3.9mm, Pitch 1.27mm, IPC High Density)
footprint D8_M (SOIC, 8-Leads, Body 4.9x3.9mm, Pitch 1.27mm, IPC Low Density)
pins: 1 PGI (in) "Power good input", 2 GND (power) "Ground", 3 ~{FPO} (oc) "Inverted fault protection output, open drain output stage", 4 ~{PSON} (in) "ON/OFF control", 5 VS33 (in) "3.3 V over/undervoltage protection", 6 VS5 (in) "5 V over/undervoltage protection", 7 VDD (power) "Supply voltage/12 V overvoltage protection input pin", 8 PGO (oc) "Power good output, open drain output stage"

## TPS3511DG4
designator U?
PC Power Supply Supervisor, 3 Supply Monitored, -40 to 125 degC, 8-pin SOIC (D), Green (RoHS & no Sb/Br); Manufacturer: Texas Instruments; PartNumber: TPS3511DG4; # of supplies monitored: 3; Iq(Typ)(uA): 1000; Output Driver Type / Reset Output: Active-low, Open-drain; Rating: Catalog; Reset Threshold Accuracy(%): 5.7; SubFamily: Supervisor and Reset IC; Threshold Voltage 1 (typ)(Typ)(V): 2.2; Threshold Voltage 2 (typ)(Typ)(V): 3.5; Threshold Voltage 3 (typ)(Typ)(V): 13.8; Time Delay(ms): 150; VCC(Max)(V): 15; VCC(Min)(V): 4; DatasheetVersion: SLVS312A; PackageVersion: revM, Jun-2011; PackageReference: D8; PackageDescription: 8-Pin Plastic Small Outline Integrated Circuit, 4.9 x 3.9 mm, Pitch 1.27 mm Pitch; Supplier 1: Digi-Key; Supplier Part Number 1: TPS3511DG4-ND; Supplier 2: Newark; Supplier Part Number 2: 18M3216; Supplier 3: Mouser; Supplier Part Number 3: 595-TPS3511DG4; Mounting Technology: Surface Mount; Code_JEDEC: MS-012AA; ComponentLink1Description: Datasheet; ComponentLink1URL: http://www.ti.com/general/docs/lit/getliterature.tsp?genericPartNumber=TPS3511&fileType=pdf
footprint D8_N (SOIC, 8-Leads, Body 4.9x3.9mm, Pitch 1.27mm, IPC Medium Density)
footprint D8_L (SOIC, 8-Leads, Body 4.9x3.9mm, Pitch 1.27mm, IPC High Density)
footprint D8_M (SOIC, 8-Leads, Body 4.9x3.9mm, Pitch 1.27mm, IPC Low Density)
pins: 1 PGI (in) "Power good input", 2 GND (power) "Ground", 3 ~{FPO} (oc) "Inverted fault protection output, open drain output stage", 4 ~{PSON} (in) "ON/OFF control", 5 VS33 (in) "3.3 V over/undervoltage protection", 6 VS5 (in) "5 V over/undervoltage protection", 7 VDD (power) "Supply voltage/12 V overvoltage protection input pin", 8 PGO (oc) "Power good output, open drain output stage"

## TPS3511DR
designator U?
PC Power Supply Supervisor, 3 Supply Monitored, -40 to 125 degC, 8-pin SOIC (D), Green (RoHS & no Sb/Br); Manufacturer: Texas Instruments; PartNumber: TPS3511DR; # of supplies monitored: 3; Iq(Typ)(uA): 1000; Output Driver Type / Reset Output: Active-low, Open-drain; Rating: Catalog; Reset Threshold Accuracy(%): 5.7; SubFamily: Supervisor and Reset IC; Threshold Voltage 1 (typ)(Typ)(V): 2.2; Threshold Voltage 2 (typ)(Typ)(V): 3.5; Threshold Voltage 3 (typ)(Typ)(V): 13.8; Time Delay(ms): 150; VCC(Max)(V): 15; VCC(Min)(V): 4; DatasheetVersion: SLVS312A; PackageVersion: revM, Jun-2011; PackageReference: D8; PackageDescription: 8-Pin Plastic Small Outline Integrated Circuit, 4.9 x 3.9 mm, Pitch 1.27 mm Pitch; Supplier 1: Digi-Key; Supplier Part Number 1: 296-31981-2-ND; Supplier 2: Digi-Key; Supplier Part Number 2: 296-31981-1-ND; Supplier 3: Digi-Key; Supplier Part Number 3: 296-31981-6-ND; Supplier 4: Newark; Supplier Part Number 4: 61H5559; Supplier 5: Mouser; Supplier Part Number 5: 595-TPS3511DR; Mounting Technology: Surface Mount; Code_JEDEC: MS-012AA; ComponentLink1Description: Datasheet; ComponentLink1URL: http://www.ti.com/general/docs/lit/getliterature.tsp?genericPartNumber=TPS3511&fileType=pdf
footprint D8_N (SOIC, 8-Leads, Body 4.9x3.9mm, Pitch 1.27mm, IPC Medium Density)
footprint D8_L (SOIC, 8-Leads, Body 4.9x3.9mm, Pitch 1.27mm, IPC High Density)
footprint D8_M (SOIC, 8-Leads, Body 4.9x3.9mm, Pitch 1.27mm, IPC Low Density)
pins: 1 PGI (in) "Power good input", 2 GND (power) "Ground", 3 ~{FPO} (oc) "Inverted fault protection output, open drain output stage", 4 ~{PSON} (in) "ON/OFF control", 5 VS33 (in) "3.3 V over/undervoltage protection", 6 VS5 (in) "5 V over/undervoltage protection", 7 VDD (power) "Supply voltage/12 V overvoltage protection input pin", 8 PGO (oc) "Power good output, open drain output stage"

## TPS3511DRG4
designator U?
PC Power Supply Supervisor, 3 Supply Monitored, -40 to 125 degC, 8-pin SOIC (D), Green (RoHS & no Sb/Br); Manufacturer: Texas Instruments; PartNumber: TPS3511DRG4; # of supplies monitored: 3; Iq(Typ)(uA): 1000; Output Driver Type / Reset Output: Active-low, Open-drain; Rating: Catalog; Reset Threshold Accuracy(%): 5.7; SubFamily: Supervisor and Reset IC; Threshold Voltage 1 (typ)(Typ)(V): 2.2; Threshold Voltage 2 (typ)(Typ)(V): 3.5; Threshold Voltage 3 (typ)(Typ)(V): 13.8; Time Delay(ms): 150; VCC(Max)(V): 15; VCC(Min)(V): 4; DatasheetVersion: SLVS312A; PackageVersion: revM, Jun-2011; PackageReference: D8; PackageDescription: 8-Pin Plastic Small Outline Integrated Circuit, 4.9 x 3.9 mm, Pitch 1.27 mm Pitch; Supplier 1: Digi-Key; Supplier Part Number 1: TPS3511DRG4-ND; Supplier 2: Newark; Supplier Part Number 2: 54K1630; Supplier 3: Mouser; Supplier Part Number 3: 595-TPS3511DRG4; Mounting Technology: Surface Mount; Code_JEDEC: MS-012AA; ComponentLink1Description: Datasheet; ComponentLink1URL: http://www.ti.com/general/docs/lit/getliterature.tsp?genericPartNumber=TPS3511&fileType=pdf
footprint D8_N (SOIC, 8-Leads, Body 4.9x3.9mm, Pitch 1.27mm, IPC Medium Density)
footprint D8_L (SOIC, 8-Leads, Body 4.9x3.9mm, Pitch 1.27mm, IPC High Density)
footprint D8_M (SOIC, 8-Leads, Body 4.9x3.9mm, Pitch 1.27mm, IPC Low Density)
pins: 1 PGI (in) "Power good input", 2 GND (power) "Ground", 3 ~{FPO} (oc) "Inverted fault protection output, open drain output stage", 4 ~{PSON} (in) "ON/OFF control", 5 VS33 (in) "3.3 V over/undervoltage protection", 6 VS5 (in) "5 V over/undervoltage protection", 7 VDD (power) "Supply voltage/12 V overvoltage protection input pin", 8 PGO (oc) "Power good output, open drain output stage"

## TPS3511P
designator U?
PC Power Supply Supervisor, 3 Supply Monitored, -40 to 125 degC, 8-pin PDIP (P), Pb-Free (RoHS); Manufacturer: Texas Instruments; PartNumber: TPS3511P; # of supplies monitored: 3; Iq(Typ)(uA): 1000; Output Driver Type / Reset Output: Active-low, Open-drain; Rating: Catalog; Reset Threshold Accuracy(%): 5.7; SubFamily: Supervisor and Reset IC; Threshold Voltage 1 (typ)(Typ)(V): 2.2; Threshold Voltage 2 (typ)(Typ)(V): 3.5; Threshold Voltage 3 (typ)(Typ)(V): 13.8; Time Delay(ms): 150; VCC(Max)(V): 15; VCC(Min)(V): 4; DatasheetVersion: SLVS312A; PackageVersion: revE, Apr-2010; PackageReference: P8; PackageDescription: 8-Pin Plastic Dual-In-Line Package, Row Spacing 7.62 mm, Pitch 2.54 mm; Supplier 1: Digi-Key; Supplier Part Number 1: TPS3511P-ND; Supplier 2: Farnell; Supplier Part Number 2: 1755524; Supplier 3: Newark; Supplier Part Number 3: 61H5560; Supplier 4: Mouser; Supplier Part Number 4: 595-TPS3511P; Mounting Technology: Through Hole; Code_JEDEC: MS-001-BA; ComponentLink1Description: Datasheet; ComponentLink1URL: http://www.ti.com/general/docs/lit/getliterature.tsp?genericPartNumber=TPS3511&fileType=pdf
footprint P8 (DIP, 8-Leads, Row Spacing 7.62mm, Pitch 2.54mm, Body 9.6x6.4mm)
pins: 1 PGI (in) "Power good input", 2 GND (power) "Ground", 3 ~{FPO} (oc) "Inverted fault protection output, open drain output stage", 4 ~{PSON} (in) "ON/OFF control", 5 VS33 (in) "3.3 V over/undervoltage protection", 6 VS5 (in) "5 V over/undervoltage protection", 7 VDD (power) "Supply voltage/12 V overvoltage protection input pin", 8 PGO (oc) "Power good output, open drain output stage"

## TPS3511PE4
designator U?
PC Power Supply Supervisor, 3 Supply Monitored, -40 to 125 degC, 8-pin PDIP (P), Pb-Free (RoHS); Manufacturer: Texas Instruments; PartNumber: TPS3511PE4; # of supplies monitored: 3; Iq(Typ)(uA): 1000; Output Driver Type / Reset Output: Active-low, Open-drain; Rating: Catalog; Reset Threshold Accuracy(%): 5.7; SubFamily: Supervisor and Reset IC; Threshold Voltage 1 (typ)(Typ)(V): 2.2; Threshold Voltage 2 (typ)(Typ)(V): 3.5; Threshold Voltage 3 (typ)(Typ)(V): 13.8; Time Delay(ms): 150; VCC(Max)(V): 15; VCC(Min)(V): 4; DatasheetVersion: SLVS312A; PackageVersion: revE, Apr-2010; PackageReference: P8; PackageDescription: 8-Pin Plastic Dual-In-Line Package, Row Spacing 7.62 mm, Pitch 2.54 mm; Supplier 1: Digi-Key; Supplier Part Number 1: TPS3511PE4-ND; Supplier 2: Newark; Supplier Part Number 2: 24K5919; Supplier 3: Mouser; Supplier Part Number 3: 595-TPS3511PE4; Mounting Technology: Through Hole; Code_JEDEC: MS-001-BA; ComponentLink1Description: Datasheet; ComponentLink1URL: http://www.ti.com/general/docs/lit/getliterature.tsp?genericPartNumber=TPS3511&fileType=pdf
footprint P8 (DIP, 8-Leads, Row Spacing 7.62mm, Pitch 2.54mm, Body 9.6x6.4mm)
pins: 1 PGI (in) "Power good input", 2 GND (power) "Ground", 3 ~{FPO} (oc) "Inverted fault protection output, open drain output stage", 4 ~{PSON} (in) "ON/OFF control", 5 VS33 (in) "3.3 V over/undervoltage protection", 6 VS5 (in) "5 V over/undervoltage protection", 7 VDD (power) "Supply voltage/12 V overvoltage protection input pin", 8 PGO (oc) "Power good output, open drain output stage"

## TPS3513D
designator U?
3-Channel Supervisor with Over-Current Detect for Switch-Mode Power Supply, 3 Supplies Monitored, -40 to 85 degC, 14-pin SOIC (D), Green (RoHS & no Sb/Br); Manufacturer: Texas Instruments; PartNumber: TPS3513D; # of supplies monitored: 3; Iq(Typ)(uA): 1000; Output Driver Type / Reset Output: Active-low, Open-drain; Rating: Catalog; Reset Threshold Accuracy(%): 2.3; SubFamily: Supervisor and Reset IC; Threshold Voltage 1 (typ)(Typ)(V): 2.2; Threshold Voltage 2 (typ)(Typ)(V): 3.5; Threshold Voltage 3 (typ)(Typ)(V): 9; Time Delay(ms): 300; VCC(Max)(V): 15; VCC(Min)(V): 4.5; DatasheetVersion: SLVS313B; PackageVersion: revM, Jun-2011; PackageReference: D14; PackageDescription: 14-Pin Plastic Small Outline Integrated Circuit, 8.7 x 3.9 mm, Pitch 1.27 mm Pitch; Supplier 1: Digi-Key; Supplier Part Number 1: 296-13404-5-ND; Supplier 2: Newark; Supplier Part Number 2: 77C0337; Supplier 3: Mouser; Supplier Part Number 3: 595-TPS3513D; Mounting Technology: Surface Mount; Code_JEDEC: MS-012AB; ComponentLink1Description: Datasheet; ComponentLink1URL: http://www.ti.com/general/docs/lit/getliterature.tsp?genericPartNumber=TPS3513&fileType=pdf
footprint D14_N (SOIC, 14-Leads, Body 8.7x3.9mm, Pitch 1.27mm, IPC Medium Density)
footprint D14_L (SOIC, 14-Leads, Body 8.7x3.9mm, Pitch 1.27mm, IPC High Density)
footprint D14_M (SOIC, 14-Leads, Body 8.7x3.9mm, Pitch 1.27mm, IPC Low Density)
pins: 1 PGI (in) "Power-good input. A low level indicates that power is not good, while a high (>1.2V) indicates that power is good.", 2 GND (power) "Ground", 3 ~{FPO} (oc) "Inverted fault protection output, open-drain, output stage. A low level indicates that the fault is not latched, while floating indicates that the fault is latched.", 4 ~{PSON} (in) "On/off control. Pull low to enable the PC Power Supply; float to disable it.", 5 IS12 (in) "12-V overcurrent protection", 6 RI (in) "Current sense setting", 7 NC "No internal connection", 8 IS5 (in) "5-V overcurrent protection", 9 IS33 (in) "3.3-V overcurrent protection", 10 VS12 (in) "12-V overvoltage/undervoltage protection", 11 VS33 (in) "3.3-V overvoltage protect/undervoltage detect", 12 VS5 (in) "5-V overvoltage protect/undervoltage detect", 13 VDD (power) "Supply voltage", 14 PGO (oc) "Power-good output, open drain output stage. A low level indicates that power is not good, while floating indicates that power is good."

## TPS3513DG4
designator U?
3-Channel Supervisor With Over-Current Detect for Switch-Mode Power Supply, 3 Supply Monitored, -40 to 85 degC, 14-pin SOIC (D), Green (RoHS & no Sb/Br); Manufacturer: Texas Instruments; PartNumber: TPS3513DG4; # of supplies monitored: 3; Iq(Typ)(uA): 1000; Output Driver Type / Reset Output: Active-low, Open-drain; Rating: Catalog; Reset Threshold Accuracy(%): 2.3; SubFamily: Supervisor and Reset IC; Threshold Voltage 1 (typ)(Typ)(V): 2.2; Threshold Voltage 2 (typ)(Typ)(V): 3.5; Threshold Voltage 3 (typ)(Typ)(V): 9; Time Delay(ms): 300; VCC(Max)(V): 15; VCC(Min)(V): 4.5; DatasheetVersion: SLVS313B; PackageVersion: revM, Jun-2011; PackageReference: D14; PackageDescription: 14-Pin Plastic Small Outline Integrated Circuit, 8.7 x 3.9 mm, Pitch 1.27 mm Pitch; Supplier 1: Digi-Key; Supplier Part Number 1: TPS3513DG4-ND; Supplier 2: Newark; Supplier Part Number 2: 27M1078; Supplier 3: Mouser; Supplier Part Number 3: 595-TPS3513DG4; Mounting Technology: Surface Mount; Code_JEDEC: MS-012AB; ComponentLink1Description: Datasheet; ComponentLink1URL: http://www.ti.com/general/docs/lit/getliterature.tsp?genericPartNumber=TPS3513&fileType=pdf
footprint D14_N (SOIC, 14-Leads, Body 8.7x3.9mm, Pitch 1.27mm, IPC Medium Density)
footprint D14_L (SOIC, 14-Leads, Body 8.7x3.9mm, Pitch 1.27mm, IPC High Density)
footprint D14_M (SOIC, 14-Leads, Body 8.7x3.9mm, Pitch 1.27mm, IPC Low Density)
pins: 1 PGI (in) "Power-good input. A low level indicates that power is not good, while a high (>1.2V) indicates that power is good.", 2 GND (power) "Ground", 3 ~{FPO} (oc) "Inverted fault protection output, open-drain, output stage. A low level indicates that the fault is not latched, while floating indicates that the fault is latched.", 4 ~{PSON} (in) "On/off control. Pull low to enable the PC Power Supply; float to disable it.", 5 IS12 (in) "12-V overcurrent protection", 6 RI (in) "Current sense setting", 7 NC "No internal connection", 8 IS5 (in) "5-V overcurrent protection", 9 IS33 (in) "3.3-V overcurrent protection", 10 VS12 (in) "12-V overvoltage/undervoltage protection", 11 VS33 (in) "3.3-V overvoltage protect/undervoltage detect", 12 VS5 (in) "5-V overvoltage protect/undervoltage detect", 13 VDD (power) "Supply voltage", 14 PGO (oc) "Power-good output, open drain output stage. A low level indicates that power is not good, while floating indicates that power is good."

## TPS3513DR
designator U?
3-Channel Supervisor With Over-Current Detect for Switch-Mode Power Supply, 3 Supply Monitored, -40 to 85 degC, 14-pin SOIC (D), Green (RoHS & no Sb/Br); Manufacturer: Texas Instruments; PartNumber: TPS3513DR; # of supplies monitored: 3; Iq(Typ)(uA): 1000; Output Driver Type / Reset Output: Active-low, Open-drain; Rating: Catalog; Reset Threshold Accuracy(%): 2.3; SubFamily: Supervisor and Reset IC; Threshold Voltage 1 (typ)(Typ)(V): 2.2; Threshold Voltage 2 (typ)(Typ)(V): 3.5; Threshold Voltage 3 (typ)(Typ)(V): 9; Time Delay(ms): 300; VCC(Max)(V): 15; VCC(Min)(V): 4.5; DatasheetVersion: SLVS313B; PackageVersion: revM, Jun-2011; PackageReference: D14; PackageDescription: 14-Pin Plastic Small Outline Integrated Circuit, 8.7 x 3.9 mm, Pitch 1.27 mm Pitch; Supplier 1: Digi-Key; Supplier Part Number 1: TPS3513DR-ND; Supplier 2: Newark; Supplier Part Number 2: 77C0338; Supplier 3: Mouser; Supplier Part Number 3: 595-TPS3513DR; Mounting Technology: Surface Mount; Code_JEDEC: MS-012AB; ComponentLink1Description: Datasheet; ComponentLink1URL: http://www.ti.com/general/docs/lit/getliterature.tsp?genericPartNumber=TPS3513&fileType=pdf
footprint D14_N (SOIC, 14-Leads, Body 8.7x3.9mm, Pitch 1.27mm, IPC Medium Density)
footprint D14_L (SOIC, 14-Leads, Body 8.7x3.9mm, Pitch 1.27mm, IPC High Density)
footprint D14_M (SOIC, 14-Leads, Body 8.7x3.9mm, Pitch 1.27mm, IPC Low Density)
pins: 1 PGI (in) "Power-good input. A low level indicates that power is not good, while a high (>1.2V) indicates that power is good.", 2 GND (power) "Ground", 3 ~{FPO} (oc) "Inverted fault protection output, open-drain, output stage. A low level indicates that the fault is not latched, while floating indicates that the fault is latched.", 4 ~{PSON} (in) "On/off control. Pull low to enable the PC Power Supply; float to disable it.", 5 IS12 (in) "12-V overcurrent protection", 6 RI (in) "Current sense setting", 7 NC "No internal connection", 8 IS5 (in) "5-V overcurrent protection", 9 IS33 (in) "3.3-V overcurrent protection", 10 VS12 (in) "12-V overvoltage/undervoltage protection", 11 VS33 (in) "3.3-V overvoltage protect/undervoltage detect", 12 VS5 (in) "5-V overvoltage protect/undervoltage detect", 13 VDD (power) "Supply voltage", 14 PGO (oc) "Power-good output, open drain output stage. A low level indicates that power is not good, while floating indicates that power is good."

## TPS3513DRG4
designator U?
3-Channel Supervisor With Over-Current Detect for Switch-Mode Power Supply, 3 Supply Monitored, -40 to 85 degC, 14-pin SOIC (D), Green (RoHS & no Sb/Br); Manufacturer: Texas Instruments; PartNumber: TPS3513DRG4; # of supplies monitored: 3; Iq(Typ)(uA): 1000; Output Driver Type / Reset Output: Active-low, Open-drain; Rating: Catalog; Reset Threshold Accuracy(%): 2.3; SubFamily: Supervisor and Reset IC; Threshold Voltage 1 (typ)(Typ)(V): 2.2; Threshold Voltage 2 (typ)(Typ)(V): 3.5; Threshold Voltage 3 (typ)(Typ)(V): 9; Time Delay(ms): 300; VCC(Max)(V): 15; VCC(Min)(V): 4.5; DatasheetVersion: SLVS313B; PackageVersion: revM, Jun-2011; PackageReference: D14; PackageDescription: 14-Pin Plastic Small Outline Integrated Circuit, 8.7 x 3.9 mm, Pitch 1.27 mm Pitch; Supplier 1: Digi-Key; Supplier Part Number 1: TPS3513DRG4-ND; Supplier 2: Newark; Supplier Part Number 2: 54K1631; Supplier 3: Mouser; Supplier Part Number 3: 595-TPS3513DRG4; Mounting Technology: Surface Mount; Code_JEDEC: MS-012AB; ComponentLink1Description: Datasheet; ComponentLink1URL: http://www.ti.com/general/docs/lit/getliterature.tsp?genericPartNumber=TPS3513&fileType=pdf
footprint D14_N (SOIC, 14-Leads, Body 8.7x3.9mm, Pitch 1.27mm, IPC Medium Density)
footprint D14_L (SOIC, 14-Leads, Body 8.7x3.9mm, Pitch 1.27mm, IPC High Density)
footprint D14_M (SOIC, 14-Leads, Body 8.7x3.9mm, Pitch 1.27mm, IPC Low Density)
pins: 1 PGI (in) "Power-good input. A low level indicates that power is not good, while a high (>1.2V) indicates that power is good.", 2 GND (power) "Ground", 3 ~{FPO} (oc) "Inverted fault protection output, open-drain, output stage. A low level indicates that the fault is not latched, while floating indicates that the fault is latched.", 4 ~{PSON} (in) "On/off control. Pull low to enable the PC Power Supply; float to disable it.", 5 IS12 (in) "12-V overcurrent protection", 6 RI (in) "Current sense setting", 7 NC "No internal connection", 8 IS5 (in) "5-V overcurrent protection", 9 IS33 (in) "3.3-V overcurrent protection", 10 VS12 (in) "12-V overvoltage/undervoltage protection", 11 VS33 (in) "3.3-V overvoltage protect/undervoltage detect", 12 VS5 (in) "5-V overvoltage protect/undervoltage detect", 13 VDD (power) "Supply voltage", 14 PGO (oc) "Power-good output, open drain output stage. A low level indicates that power is not good, while floating indicates that power is good."

## TPS3513N
designator U?
3-Channel Supervisor With Over-Current Detect for Switch-Mode Power Supply, 3 Supply Monitored, -40 to 85 degC, 14-pin PDIP (N), Green (RoHS & no Sb/Br); Manufacturer: Texas Instruments; PartNumber: TPS3513N; # of supplies monitored: 3; Iq(Typ)(uA): 1000; Output Driver Type / Reset Output: Active-low, Open-drain; Rating: Catalog; Reset Threshold Accuracy(%): 2.3; SubFamily: Supervisor and Reset IC; Threshold Voltage 1 (typ)(Typ)(V): 2.2; Threshold Voltage 2 (typ)(Typ)(V): 3.5; Threshold Voltage 3 (typ)(Typ)(V): 9; Time Delay(ms): 300; VCC(Max)(V): 15; VCC(Min)(V): 4.5; DatasheetVersion: SLVS313B; PackageVersion: revE, Dec-2002; PackageReference: N14; PackageDescription: 14-Pin Plastic Dual-In-Line Package, Row Spacing 7.62 mm, Pitch 2.54 mm; Supplier 1: Digi-Key; Supplier Part Number 1: 296-17024-ND; Supplier 2: Farnell; Supplier Part Number 2: 1755525; Supplier 3: Newark; Supplier Part Number 3: 77C0339; Supplier 4: Mouser; Supplier Part Number 4: 595-TPS3513N; Mounting Technology: Through Hole; Code_JEDEC: MS-001; ComponentLink1Description: Datasheet; ComponentLink1URL: http://www.ti.com/general/docs/lit/getliterature.tsp?genericPartNumber=TPS3513&fileType=pdf
footprint N14 (DIP, 14-Leads, Row Spacing 7.62mm, Pitch 2.54mm, Body 19.3x6.4mm)
pins: 1 PGI (in) "Power-good input. A low level indicates that power is not good, while a high (>1.2V) indicates that power is good.", 2 GND (power) "Ground", 3 ~{FPO} (oc) "Inverted fault protection output, open-drain, output stage. A low level indicates that the fault is not latched, while floating indicates that the fault is latched.", 4 ~{PSON} (in) "On/off control. Pull low to enable the PC Power Supply; float to disable it.", 5 IS12 (in) "12-V overcurrent protection", 6 RI "Current sense setting", 7 NC "No internal connection", 8 IS5 (in) "5-V overcurrent protection", 9 IS33 (in) "3.3-V overcurrent protection", 10 VS12 (in) "12-V overvoltage/undervoltage protection", 11 VS33 (in) "3.3-V overvoltage protect/undervoltage detect", 12 VS5 (in) "5-V overvoltage protect/undervoltage detect", 13 VDD (power) "Supply voltage", 14 PGO (oc) "Power-good output, open drain output stage. A low level indicates that power is not good, while floating indicates that power is good."